# EAGLE library part ICTP100A (library CubeSat_OBC_Library)
STM32H753ZIT6 MCU 144pin Max 85C
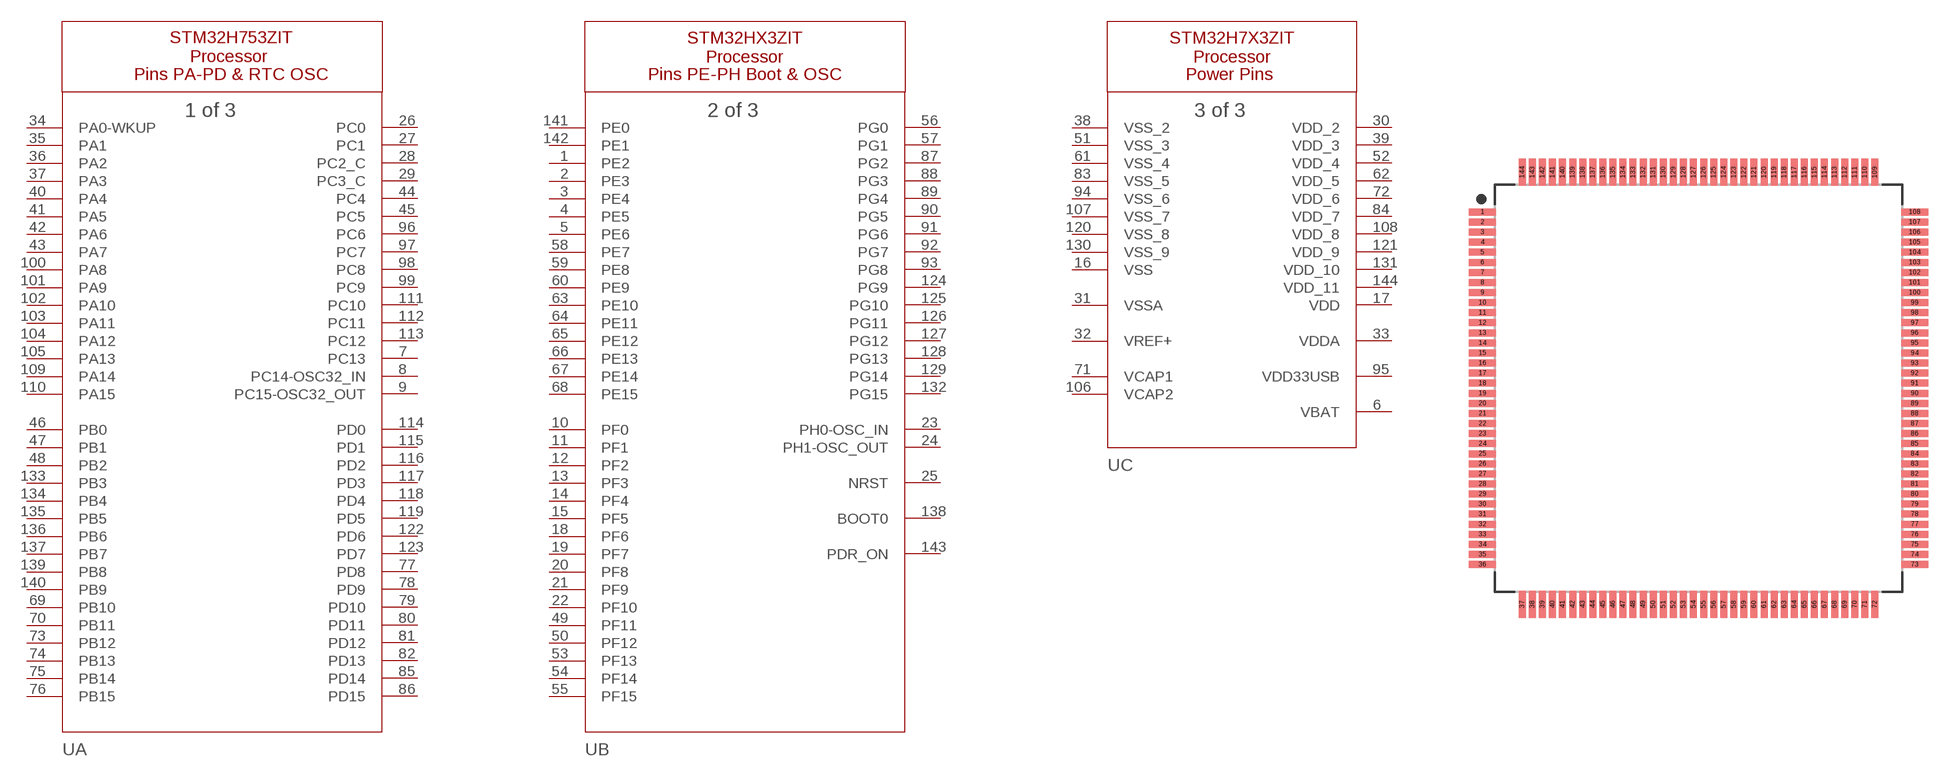
[diagram p8: symbol with the pads of IC_STM32H753ZIT6; footprint IC_STM32H753ZIT6]

Designator prefix U; gates A=STM32H753ZIT_A B=STM32H753ZIT_B C=STM32H753ZIT_C

## ICTP100A_STM32H753ZIT6_MCU_144PIN (TYPE: STM32H753ZIT6)  [IC_STM32H753ZIT6]
1  B:PE2
2  B:PE3
3  B:PE4
4  B:PE5
5  B:PE6
6  C:VBAT  pwr
7  A:PC13
8  A:PC14-OSC32_IN
9  A:PC15-OSC32_OUT
10  B:PF0
11  B:PF1
12  B:PF2
13  B:PF3
14  B:PF4
15  B:PF5
16  C:VSS  pwr
17  C:VDD  pwr
18  B:PF6
19  B:PF7
20  B:PF8
21  B:PF9
22  B:PF10
23  B:PH0-OSC_IN
24  B:PH1-OSC_OUT
25  B:NRST
26  A:PC0
27  A:PC1
28  A:PC2_C
29  A:PC3_C
30  C:VDD_2  pwr
31  C:VSSA  pwr
32  C:VREF+  pwr
33  C:VDDA  pwr
34  A:PA0-WKUP
35  A:PA1
36  A:PA2
37  A:PA3
38  C:VSS_2  pwr
39  C:VDD_3  pwr
40  A:PA4
41  A:PA5
42  A:PA6
43  A:PA7
44  A:PC4
45  A:PC5
46  A:PB0
47  A:PB1
48  A:PB2
49  B:PF11
50  B:PF12
51  C:VSS_3  pwr
52  C:VDD_4  pwr
53  B:PF13
54  B:PF14
55  B:PF15
56  B:PG0
57  B:PG1
58  B:PE7
59  B:PE8
60  B:PE9
61  C:VSS_4  pwr
62  C:VDD_5  pwr
63  B:PE10
64  B:PE11
65  B:PE12
66  B:PE13
67  B:PE14
68  B:PE15
69  A:PB10
70  A:PB11
71  C:VCAP1  pwr
72  C:VDD_6  pwr
73  A:PB12
74  A:PB13
75  A:PB14
76  A:PB15
77  A:PD8
78  A:PD9
79  A:PD10
80  A:PD11
81  A:PD12
82  A:PD13
83  C:VSS_5  pwr
84  C:VDD_7  pwr
85  A:PD14
86  A:PD15
87  B:PG2
88  B:PG3
89  B:PG4
90  B:PG5
91  B:PG6
92  B:PG7
93  B:PG8
94  C:VSS_6  pwr
95  C:VDD33USB  pwr
96  A:PC6
97  A:PC7
98  A:PC8
99  A:PC9
100  A:PA8
101  A:PA9
102  A:PA10
103  A:PA11
104  A:PA12
105  A:PA13
106  C:VCAP2  pwr
107  C:VSS_7  pwr
108  C:VDD_8  pwr
109  A:PA14
110  A:PA15
111  A:PC10
112  A:PC11
113  A:PC12
114  A:PD0
115  A:PD1
116  A:PD2
117  A:PD3
118  A:PD4
119  A:PD5
120  C:VSS_8  pwr
121  C:VDD_9  pwr
122  A:PD6
123  A:PD7
124  B:PG9
125  B:PG10
126  B:PG11
127  B:PG12
128  B:PG13
129  B:PG14
130  C:VSS_9  pwr
131  C:VDD_10  pwr
132  B:PG15
133  A:PB3
134  A:PB4
135  A:PB5
136  A:PB6
137  A:PB7
138  B:BOOT0  in
139  A:PB8
140  A:PB9
141  B:PE0
142  B:PE1
143  B:PDR_ON  pas
144  C:VDD_11  pwr

## Footprint IC_STM32H753ZIT6 (pad centres in mm)
144-QFP, 0.50 mm pitch, 22.00 mm span, 20.00 X 20.00 X 1.60 mm body 144-pin QFP package with 0.50 mm pitch, 22.00 mm lead span1 X 22.00 mm lead span2 with body size 20.00 X 20.00 X 1.60 mm
smd 1.35 x 0.348: 1 -10.725,8.75; 2 -10.725,8.25; 3 -10.725,7.75; 4 -10.725,7.25; 5 -10.725,6.75; 6 -10.725,6.25; 7 -10.725,5.75; 8 -10.725,5.25; 9 -10.725,4.75; 10 -10.725,4.25; 11 -10.725,3.75; 12 -10.725,3.25; 13 -10.725,2.75; 14 -10.725,2.25; 15 -10.725,1.75; 16 -10.725,1.25; 17 -10.725,0.75; 18 -10.725,0.25; 19 -10.725,-0.25; 20 -10.725,-0.75; 21 -10.725,-1.25; 22 -10.725,-1.75; 23 -10.725,-2.25; 24 -10.725,-2.75; 25 -10.725,-3.25; 26 -10.725,-3.75; 27 -10.725,-4.25; 28 -10.725,-4.75; 29 -10.725,-5.25; 30 -10.725,-5.75; 31 -10.725,-6.25; 32 -10.725,-6.75; 33 -10.725,-7.25; 34 -10.725,-7.75; 35 -10.725,-8.25; 36 -10.725,-8.75; 73 10.725,-8.75; 74 10.725,-8.25; 75 10.725,-7.75; 76 10.725,-7.25; 77 10.725,-6.75; 78 10.725,-6.25; 79 10.725,-5.75; 80 10.725,-5.25; 81 10.725,-4.75; 82 10.725,-4.25; 83 10.725,-3.75; 84 10.725,-3.25; 85 10.725,-2.75; 86 10.725,-2.25; 87 10.725,-1.75; 88 10.725,-1.25; 89 10.725,-0.75; 90 10.725,-0.25; 91 10.725,0.25; 92 10.725,0.75; 93 10.725,1.25; 94 10.725,1.75; 95 10.725,2.25; 96 10.725,2.75; 97 10.725,3.25; 98 10.725,3.75; 99 10.725,4.25; 100 10.725,4.75; 101 10.725,5.25; 102 10.725,5.75; 103 10.725,6.25; 104 10.725,6.75; 105 10.725,7.25; 106 10.725,7.75; 107 10.725,8.25; 108 10.725,8.75
smd 0.348 x 1.35: 37 -8.75,-10.725; 38 -8.25,-10.725; 39 -7.75,-10.725; 40 -7.25,-10.725; 41 -6.75,-10.725; 42 -6.25,-10.725; 43 -5.75,-10.725; 44 -5.25,-10.725; 45 -4.75,-10.725; 46 -4.25,-10.725; 47 -3.75,-10.725; 48 -3.25,-10.725; 49 -2.75,-10.725; 50 -2.25,-10.725; 51 -1.75,-10.725; 52 -1.25,-10.725; 53 -0.75,-10.725; 54 -0.25,-10.725; 55 0.25,-10.725; 56 0.75,-10.725; 57 1.25,-10.725; 58 1.75,-10.725; 59 2.25,-10.725; 60 2.75,-10.725; 61 3.25,-10.725; 62 3.75,-10.725; 63 4.25,-10.725; 64 4.75,-10.725; 65 5.25,-10.725; 66 5.75,-10.725; 67 6.25,-10.725; 68 6.75,-10.725; 69 7.25,-10.725; 70 7.75,-10.725; 71 8.25,-10.725; 72 8.75,-10.725; 109 8.75,10.725; 110 8.25,10.725; 111 7.75,10.725; 112 7.25,10.725; 113 6.75,10.725; 114 6.25,10.725; 115 5.75,10.725; 116 5.25,10.725; 117 4.75,10.725; 118 4.25,10.725; 119 3.75,10.725; 120 3.25,10.725; 121 2.75,10.725; 122 2.25,10.725; 123 1.75,10.725; 124 1.25,10.725; 125 0.75,10.725; 126 0.25,10.725; 127 -0.25,10.725; 128 -0.75,10.725; 129 -1.25,10.725; 130 -1.75,10.725; 131 -2.25,10.725; 132 -2.75,10.725; 133 -3.25,10.725; 134 -3.75,10.725; 135 -4.25,10.725; 136 -4.75,10.725; 137 -5.25,10.725; 138 -5.75,10.725; 139 -6.25,10.725; 140 -6.75,10.725; 141 -7.25,10.725; 142 -7.75,10.725; 143 -8.25,10.725; 144 -8.75,10.725